# EAGLE library part MICRO-SDCARD (library ANIMAlib)
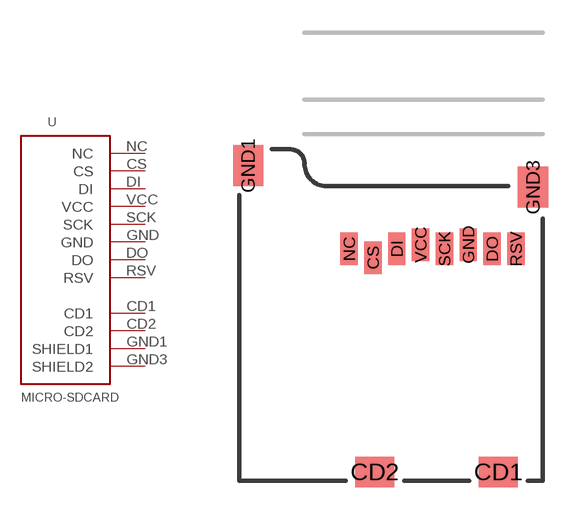
[diagram p26: symbol with the pads of MICRO-SD-SOCKET-PP; footprint MICRO-SD-SOCKET-PP]

Designator prefix U

## MICRO-SDCARDSOCKET  [MICRO-SD-SOCKET-PP]
CD1  CD1
CD2  CD2
CS  CS
DI  DI
DO  DO
GND  GND
GND1  SHIELD1
GND3  SHIELD2
NC  NC
RSV  RSV
SCK  SCK
VCC  VCC

## Footprint MICRO-SD-SOCKET-PP (pad centres in mm)
smd 1.8 x 1.4: CD1 -2.05,0.4; CD2 -7.75,0.4
smd 0.8 x 1.5: CS -7.84,10.3; DI -6.74,10.7; DO -2.34,10.7; GND -3.44,10.9; NC -8.94,10.7; RSV -1.24,10.7; SCK -4.54,10.7; VCC -5.64,10.9
smd 1.4 x 1.9: GND1 -13.6,14.55; GND3 -0.45,13.55